# Altium footprint library SOIC-16N.PcbLib: 1 footprints
Each footprint in its own frame and in the unit in brackets; x right, y up, seen from the top. Pads: shape width x height; smd on the part's side, far side on the other; paste and mask are expansions set on the pad; w line width, h text height; cw(c..) or ccw(c..) is an arc to the next point about the centre after c.
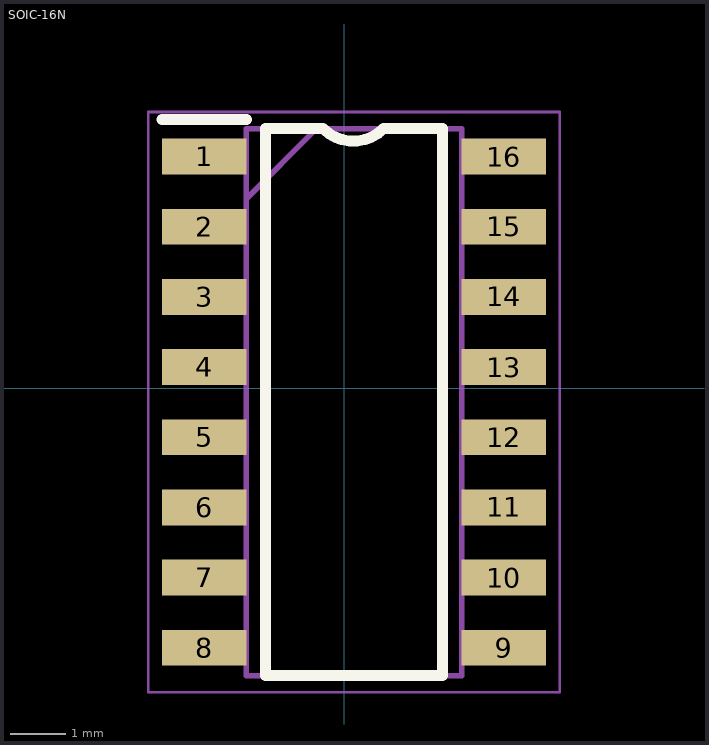
[diagram p0: the footprint, top view; thin cyan lines are the x and y axes]

## SOIC-16N [mm]
pads (16):
  rect 1.525x0.65 smd: 1(-2.534,4.191) 2(-2.534,2.921) 3(-2.534,1.651) 4(-2.534,0.381) 5(-2.534,-0.889) 6(-2.534,-2.159) 7(-2.534,-3.429) 8(-2.534,-4.699) 9(2.89,-4.699) 10(2.89,-3.429) 11(2.89,-2.159) 12(2.89,-0.889) 13(2.89,0.381) 14(2.89,1.651) 15(2.89,2.921) 16(2.89,4.191)
Top Overlay:
  lines w0.2: -3.297,4.866 -1.772,4.866 ; 1.753,4.696 0.711,4.696 cw(c0.165,5.242) -0.381,4.696 -1.422,4.696 -1.422,-5.204 1.778,-5.204 1.778,4.696
Mechanical 13:
  lines w0.1: -1.772,3.426 -0.502,4.696 ; -1.772,-5.204 2.128,-5.204 2.128,4.696 -1.772,4.696 -1.772,-5.204
Mechanical 15:
  lines w0.05: -3.547,-5.504 3.903,-5.504 3.903,4.996 -3.547,4.996 -3.547,-5.504
3D body "MAX3232EESE+.stp": height 1.75, standoff 0, extent -2.822,-5.204 3.178,4.696